# Altium schematic symbol library Connector.SchLib: 380 symbols (part 1 of 2)
Pins are listed as number, name and electrical type; pins without a type are passive.

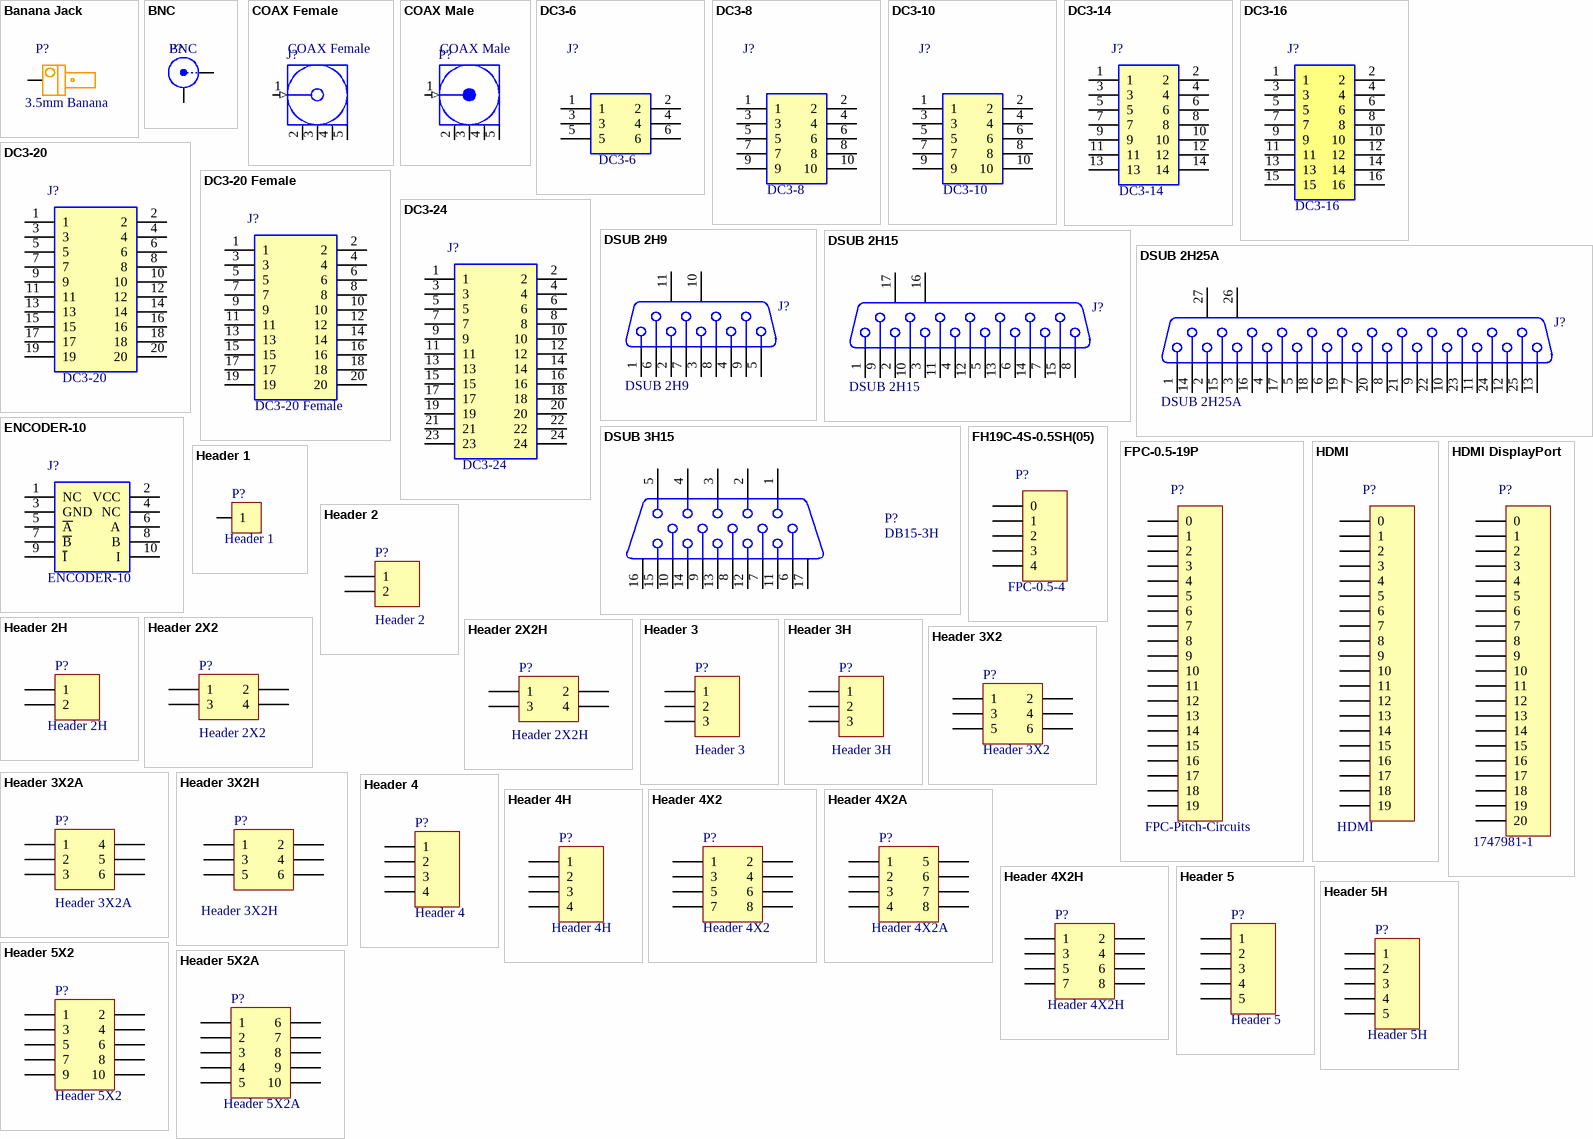
[diagram p0: symbols Banana Jack to Header 5X2A]

## Banana Jack
designator P?, comment Sch Name: 3.5mm Banana  (hidden comment: Device Name)
Banana Jack; Manufacture: Device Name
footprint Banana Jack female 3.5mm
pins: 1

## BNC
designator P?, comment Sch Name: BNC  (hidden comment: Device Name)
BNC Elbow Connector; Manufacture: Device Name
footprint BNC
pins: 1 X, 2 Y

## COAX Female
designator J?, comment Device Name  (value not drawn)
COAX Female; Manufacture: Device Name; Sch Name: COAX Female
pins: 1 Signal (in) "Signal Pin", 2 GND (power), 3 GND (power), 4 GND (power), 5 GND (power)

## COAX Male
designator P?, comment Sch Name: COAX Male  (hidden comment: Device Name)
RF Coaxial PCB Connector, MMCX; COAX Male; Manufacture: Device Name
pins: 1 Signal (in) "Signal Pin", 2 GND (power), 3 GND (power), 4 GND (power), 5 GND (power)

## DC3-6
designator J?, comment Sch Name: DC3-6  (hidden comment: Device Name)
6P简易牛角座; Manufacture: Device Name
footprint DC3-6 (6脚简易牛角座)
footprint DC3-6 Horizontal (弯头6脚简易牛角座)
pins: 1, 2, 3, 4, 5, 6

## DC3-8
designator J?, comment Sch Name: DC3-8  (hidden comment: Device Name)
8P简易牛角座; Manufacture: Device Name
footprint DC3-8 (8脚简易牛角座)
pins: 1, 2, 3, 4, 5, 6, 7, 8, 9, 10

## DC3-10
designator J?, comment Sch Name: DC3-10  (hidden comment: Device Name)
10P简易牛角座; Manufacture: Device Name
footprint DC3-10 (10脚简易牛角座)
footprint DC3-10 Horizontal (弯头10脚简易牛角座)
pins: 1, 2, 3, 4, 5, 6, 7, 8, 9, 10

## DC3-14
designator J?, comment Sch Name: DC3-14  (hidden comment: Device Name)
14P简易牛角座; Manufacture: Device Name
footprint DC3-14 Horizontal (弯头14脚简易牛角座)
footprint DC3-14 (14脚简易牛角座)
pins: 1, 2, 3, 4, 5, 6, 7, 8, 9, 10, 11, 12, 13, 14

## DC3-16
designator J?, comment Sch Name: DC3-16  (hidden comment: Device Name)
16P简易牛角座; Manufacture: Device Name
footprint DC3-16 (16脚简易牛角座)
footprint DC3-16 Horizontal (弯头16脚简易牛角座)
pins: 1, 2, 3, 4, 5, 6, 7, 8, 9, 10, 11, 12, 13, 14, 15, 16

## DC3-20
designator J?, comment Sch Name: DC3-20  (hidden comment: Device Name)
20P简易牛角座; Manufacture: Device Name
footprint DC3-20 (20脚简易牛角座)
footprint DC3-20 Horizontal
pins: 1, 2, 3, 4, 5, 6, 7, 8, 9, 10, 11, 12, 13, 14, 15, 16, 17, 18, 19, 20

## DC3-20 Female
designator J?, comment Sch Name: DC3-20 Female  (hidden comment: Device Name)
20P定向排母; Manufacture: Device Name
footprint DC3-20 Horizontal Female
pins: 1, 2, 3, 4, 5, 6, 7, 8, 9, 10, 11, 12, 13, 14, 15, 16, 17, 18, 19, 20

## DC3-24
designator J?, comment Sch Name: DC3-24  (hidden comment: Device Name)
24P简易牛角座; Manufacture: Device Name
footprint DC3-24 (24脚简易牛角座)
pins: 1, 2, 3, 4, 5, 6, 7, 8, 9, 10, 11, 12, 13, 14, 15, 16, 17, 18, 19, 20, 21, 22, 23, 24

## DSUB 2H9
designator J?, comment Device Name  (value not drawn)
DSUB 2H9; Manufacture: Device Name; Sch Name: DSUB 2H9
signal-integrity model Connector
pins: 1, 2, 3, 4, 5, 6, 7, 8, 9, 10 MH1, 11 MH2

## DSUB 2H15
designator J?, comment Device Name  (value not drawn)
DSUB 2H15; Manufacture: Device Name; Sch Name: DSUB 2H15
signal-integrity model Connector
pins: 1, 2, 3, 4, 5, 6, 7, 8, 9, 10, 11, 12, 13, 14, 15, 16 MH1, 17 MH2

## DSUB 2H25A
designator J?, comment Device Name  (value not drawn)
DSUB 2H25A; Manufacture: Device Name; Sch Name: DSUB 2H25A
signal-integrity model Connector
pins: 1, 2, 3, 4, 5, 6, 7, 8, 9, 10, 11, 12, 13, 14, 15, 16, 17, 18, 19, 20, 21, 22, 23, 24, 25, 26 MH1, 27 MH2

## DSUB 3H15
designator P?, comment DB15-3H
DSUB 3H15; Manufacture: Device Name; Sch Name: DSUB 3H15
footprint DSUB 3H15 Female VGA
pins: 1, 2, 3, 4, 5, 6, 7, 8, 9, 10, 11, 12, 13, 14, 15, 16 MH1, 17 MH2

## ENCODER-10
designator J?, comment Sch Name: ENCODER-10  (hidden comment: Device Name)
10脚安华高编码器接头; Manufacture: Device Name
footprint DC3-10 (10脚简易牛角座)
footprint DC3-10 Horizontal (弯头10脚简易牛角座)
pins: 1 NC, 2 VCC, 3 GND, 4 NC, 5 ~{A}, 6 A, 7 ~{B}, 8 B, 9 ~{I} (power), 10 I (power)

## FH19C-4S-0.5SH(05)
designator P?  Sch Name: FPC-0.5-4  (hidden comment: FH19C-4S-0.5SH(05))
Manufacture: FH19C-4S-0.5SH(05)
footprint FH19C-4S-0.5SH(05)
pins: 0, 1, 2, 3, 4

## FPC-0.5-19P
designator P?, comment Sch Name: FPC-Pitch-Circuits  (hidden comment: Device Name)
FPC-0.5-19P; Manufacture: Device Name
footprint FPC 0.5 19P
pins: 0, 1, 2, 3, 4, 5, 6, 7, 8, 9, 10, 11, 12, 13, 14, 15, 16, 17, 18, 19

## HDMI
designator P?, comment Device Name  (value not drawn)
HDMI; Manufacture: Device Name; Sch Name: HDMI
footprint HDMI
pins: 0, 1, 2, 3, 4, 5, 6, 7, 8, 9, 10, 11, 12, 13, 14, 15, 16, 17, 18, 19

## HDMI DisplayPort
designator P?, comment Sch Name: 1747981-1  (hidden comment: Device Name)
HDMI 1747981-1; Manufacture: Device Name
footprint HDMI DisplayPort
pins: 0, 1, 2, 3, 4, 5, 6, 7, 8, 9, 10, 11, 12, 13, 14, 15, 16, 17, 18, 19, 20

## Header 1
designator P?, comment Sch Name: Header 1  (hidden comment: Device Name)
Header, 1-Pin; Manufacture: Device Name
signal-integrity model Connector
footprint HDR1X1F (单排1针排针)
footprint HDR-2.0-1X1
pins: 1

## Header 2
designator P?, comment Sch Name: Header 2  (hidden comment: Device Name)
Header, 2-Pin; Manufacture: Device Name
footprint HDR1X2 (Connector; Header; 2 Position)
signal-integrity model Connector
footprint HDR-2.0-1X2
footprint HDR-2.0-2X1-SMT
footprint HDR-1.27-1X2 (Connector; Header; 2 Position)
pins: 1, 2

## Header 2H
designator P?, comment Sch Name: Header 2H  (hidden comment: Device Name)
Header, 2-Pin, Right Angle; Manufacture: Device Name
footprint HDR1X2H (Connector; Header; 2 Position; Right Angle)
signal-integrity model Connector
pins: 1, 2

## Header 2X2
designator P?, comment Sch Name: Header 2X2  (hidden comment: Device Name)
Header, 2-Pin, Dual row; Manufacture: Device Name
footprint HDR2X2 (Connector; Header; 2x2 Position)
signal-integrity model Connector
footprint HDR-2.0-2X2-SMT
footprint HDR-1.27-2X2 (Connector; Header; 2x2 Position)
pins: 1, 2, 3, 4

## Header 2X2H
designator P?, comment Sch Name: Header 2X2H  (hidden comment: Device Name)
Header, 2-Pin, Dual row, Right Angle; Manufacture: Device Name
footprint HDR2X2H (Connector; Header; 2x2 Position; Right Angle)
signal-integrity model Connector
pins: 1, 2, 3, 4

## Header 3
designator P?, comment Sch Name: Header 3  (hidden comment: Device Name)
Header, 3-Pin; Manufacture: Device Name
footprint HDR1X3 (Connector; Header; 3 Position)
signal-integrity model Connector
footprint HDR-1.27-1X3 (Connector; Header; 3 Position)
footprint HDR-2.0-1X3
pins: 1, 2, 3

## Header 3H
designator P?, comment Sch Name: Header 3H  (hidden comment: Device Name)
Header, 3-Pin, Right Angle; Manufacture: Device Name
footprint HDR1X3H (Connector; Header; 3 Position; Right Angle)
signal-integrity model Connector
pins: 1, 2, 3

## Header 3X2
designator P?, comment Sch Name: Header 3X2  (hidden comment: Device Name)
Header, 3-Pin, Dual row; Manufacture: Device Name
footprint HDR2X3 (Connector; Header; 3x2 Position)
signal-integrity model Connector
footprint HDR-2.0-2X3-SMT
footprint HDR-1.27-2X3 (Connector; Header; 3x2 Position)
pins: 1, 2, 3, 4, 5, 6

## Header 3X2A
designator P?, comment Sch Name: Header 3X2A  (hidden comment: Device Name)
Header, 3-Pin, Dual row; Manufacture: Device Name
footprint HDR2X3_CEN (Connector; Header; 3x2 Position)
signal-integrity model Connector
pins: 1, 2, 3, 4, 5, 6

## Header 3X2H
designator P?, comment Sch Name: Header 3X2H  (hidden comment: Device Name)
Header, 3-Pin, Dual row, Right Angle; Manufacture: Device Name
footprint HDR2X3H (Connector; Header; 3x2 Position; Right Angle)
signal-integrity model Connector
pins: 1, 2, 3, 4, 5, 6

## Header 4
designator P?, comment Sch Name: Header 4  (hidden comment: Device Name)
Header, 4-Pin; Manufacture: Device Name
footprint HDR1X4 (Connector; Header; 4 Position)
signal-integrity model Connector
footprint HDR-2.0-1X4
footprint HDR-1.27-1X4 (Connector; Header; 4 Position)
pins: 1, 2, 3, 4

## Header 4H
designator P?, comment Sch Name: Header 4H  (hidden comment: Device Name)
Header, 4-Pin, Right Angle; Manufacture: Device Name
footprint HDR1X4H (Connector; Header; 4 Position; Right Angle)
signal-integrity model Connector
pins: 1, 2, 3, 4

## Header 4X2
designator P?, comment Sch Name: Header 4X2  (hidden comment: Device Name)
Header, 4-Pin, Dual row; Manufacture: Device Name
footprint HDR2X4 (Connector; Header; 4x2 Position)
signal-integrity model Connector
footprint HDR-2.0-2X4-SMT
footprint HDR-1.27-2X4 (Connector; Header; 4x2 Position)
pins: 1, 2, 3, 4, 5, 6, 7, 8

## Header 4X2A
designator P?, comment Sch Name: Header 4X2A  (hidden comment: Device Name)
Header, 4-Pin, Dual row; Manufacture: Device Name
footprint HDR2X4_CEN (Connector; Header; 4x2 Position)
signal-integrity model Connector
pins: 1, 2, 3, 4, 5, 6, 7, 8

## Header 4X2H
designator P?, comment Sch Name: Header 4X2H  (hidden comment: Device Name)
Header, 4-Pin, Dual row, Right Angle; Manufacture: Device Name
footprint HDR2X4H (Connector; Header; 4x2 Position; Right Angle)
signal-integrity model Connector
pins: 1, 2, 3, 4, 5, 6, 7, 8

## Header 5
designator P?, comment Sch Name: Header 5  (hidden comment: Device Name)
Header, 5-Pin; Manufacture: Device Name
footprint HDR1X5 (Connector; Header; 5 Position)
signal-integrity model Connector
footprint HDR-2.0-1X5
footprint HDR-1.27-1X5 (Connector; Header; 5 Position)
pins: 1, 2, 3, 4, 5

## Header 5H
designator P?, comment Sch Name: Header 5H  (hidden comment: Device Name)
Header, 5-Pin, Right Angle; Manufacture: Device Name
footprint HDR1X5H (Connector; Header; 5 Position; Right Angle)
signal-integrity model Connector
footprint HDR1X5_PAD (Connector; Header; 5 Position; Right Angle)
pins: 1, 2, 3, 4, 5

## Header 5X2
designator P?, comment Sch Name: Header 5X2  (hidden comment: Device Name)
Header, 5-Pin, Dual row; Manufacture: Device Name
footprint HDR2X5 (Connector; Header; 5x2 Position)
signal-integrity model Connector
footprint HDR-2.0-2X5-SMT
footprint HDR-1.27-2X5 (Connector; Header; 5x2 Position)
footprint HDR-2.0-2X5
pins: 1, 2, 3, 4, 5, 6, 7, 8, 9, 10

## Header 5X2A
designator P?, comment Sch Name: Header 5X2A  (hidden comment: Device Name)
Header, 5-Pin, Dual row; Manufacture: Device Name
footprint HDR2X5_CEN (Connector; Header; 5x2 Position)
signal-integrity model Connector
pins: 1, 2, 3, 4, 5, 6, 7, 8, 9, 10

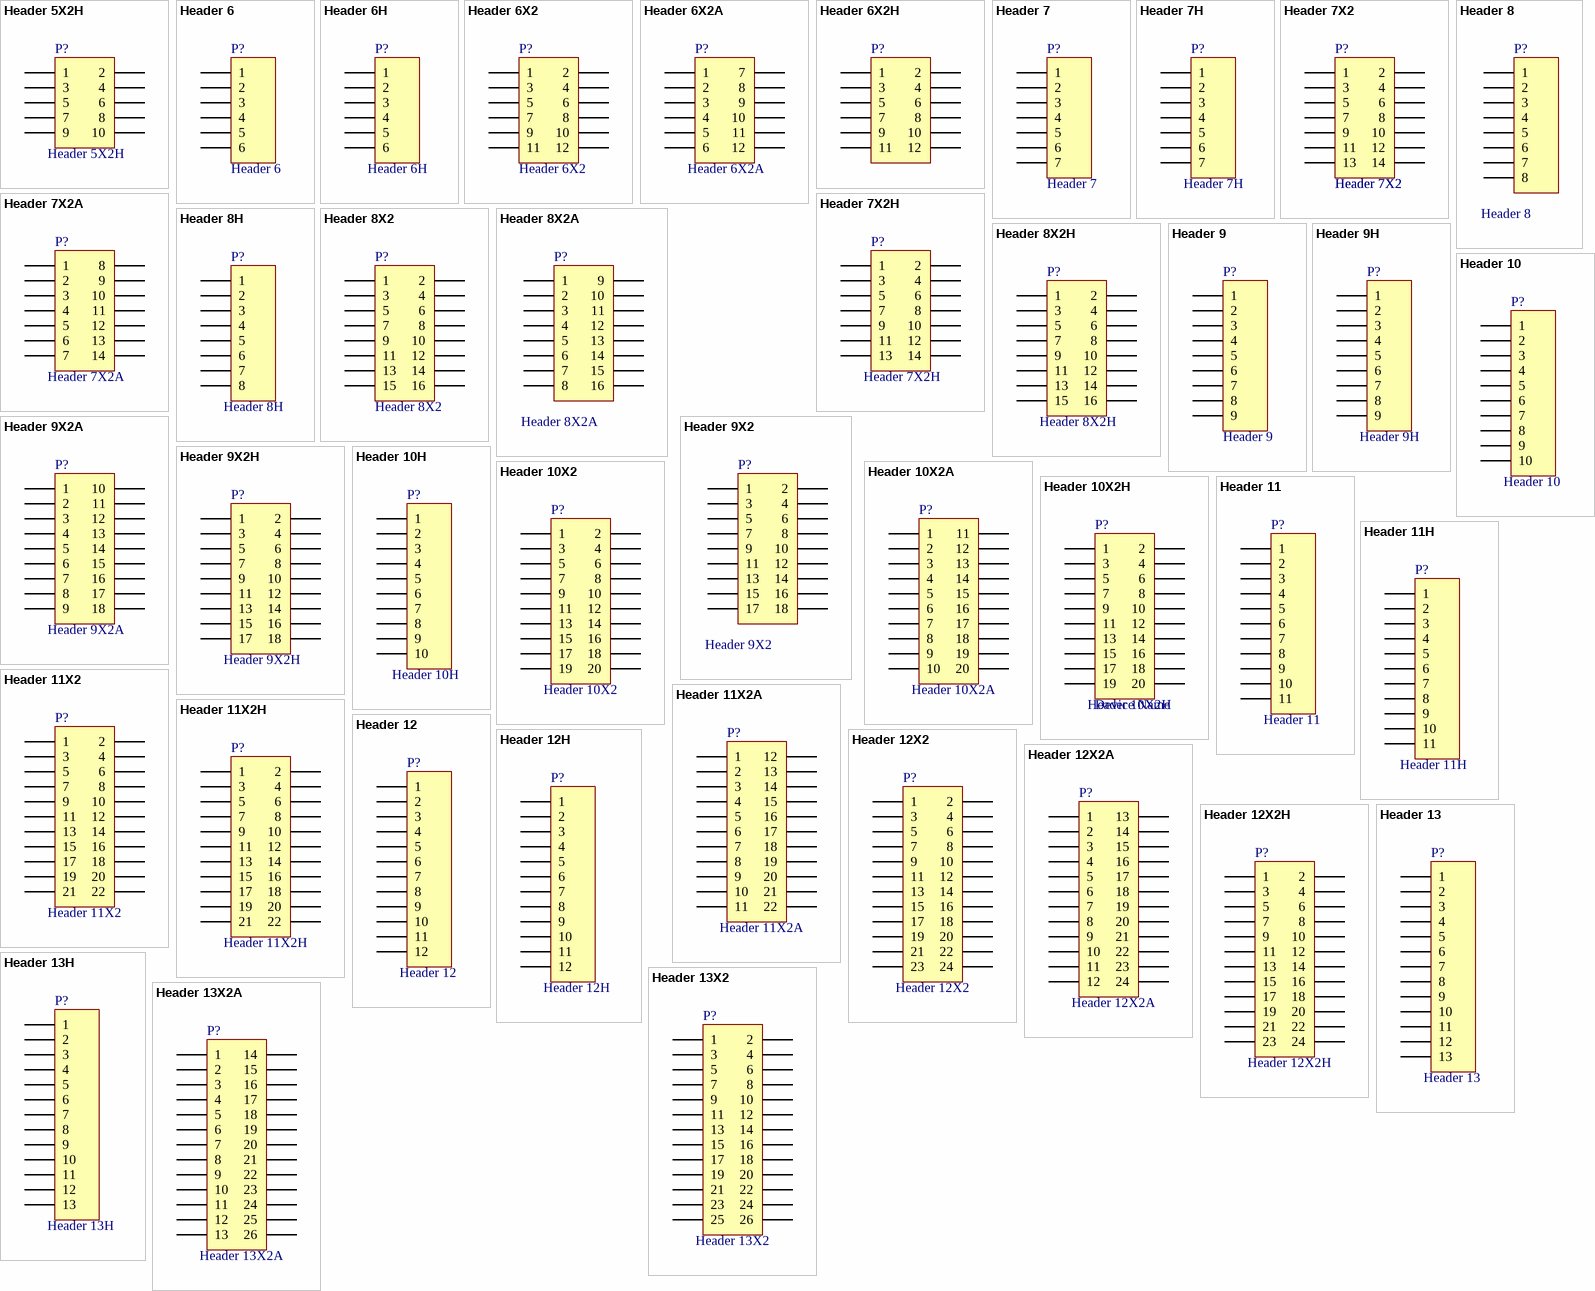
[diagram p1: symbols Header 5X2H to Header 13X2A]

## Header 5X2H
designator P?, comment Sch Name: Header 5X2H  (hidden comment: Device Name)
Header, 5-Pin, Dual row, Right Angle; Manufacture: Device Name
footprint HDR2X5H (Connector; Header; 5x2 Position; Right Angle)
signal-integrity model Connector
pins: 1, 2, 3, 4, 5, 6, 7, 8, 9, 10

## Header 6
designator P?, comment Sch Name: Header 6  (hidden comment: Device Name)
Header, 6-Pin; Manufacture: Device Name
footprint HDR1X6 (Connector; Header; 6 Position)
signal-integrity model Connector
footprint HDR-2.0-1X6
footprint HDR-1.27-1X6 (Connector; Header; 6 Position)
pins: 1, 2, 3, 4, 5, 6

## Header 6H
designator P?, comment Sch Name: Header 6H  (hidden comment: Device Name)
Header, 6-Pin, Right Angle; Manufacture: Device Name
footprint HDR1X6H (Connector; Header; 6 Position; Right Angle)
signal-integrity model Connector
pins: 1, 2, 3, 4, 5, 6

## Header 6X2
designator P?, comment Sch Name: Header 6X2  (hidden comment: Device Name)
Header, 6-Pin, Dual row; Manufacture: Device Name
footprint HDR2X6 (Connector; Header; 6x2 Position)
signal-integrity model Connector
footprint HDR-2.0-2X6-SMT
footprint HDR-1.27-2X6 (Connector; Header; 6x2 Position)
pins: 1, 2, 3, 4, 5, 6, 7, 8, 9, 10, 11, 12

## Header 6X2A
designator P?, comment Sch Name: Header 6X2A  (hidden comment: Device Name)
Header, 6-Pin, Dual row; Manufacture: Device Name
footprint HDR2X6_CEN (Connector; Header; 6x2 Position)
signal-integrity model Connector
pins: 1, 2, 3, 4, 5, 6, 7, 8, 9, 10, 11, 12

## Header 6X2H
designator P?, comment Device Name  (value not drawn)
Header, 6-Pin, Dual row, Right Angle; Sch Name: Header 6X2H; Manufacture: Device Name
footprint HDR2X6H (Connector; Header; 6x2 Position; Right Angle)
signal-integrity model Connector
pins: 1, 2, 3, 4, 5, 6, 7, 8, 9, 10, 11, 12

## Header 7
designator P?, comment Sch Name: Header 7  (hidden comment: Device Name)
Header, 7-Pin; Manufacture: Device Name
footprint HDR1X7 (Connector; Header; 7 Position)
signal-integrity model Connector
footprint HDR-2.0-1X7
footprint HDR-1.27-1X7 (Connector; Header; 7 Position)
pins: 1, 2, 3, 4, 5, 6, 7

## Header 7H
designator P?, comment Sch Name: Header 7H  (hidden comment: Device Name)
Header, 7-Pin, Right Angle; Manufacture: Device Name
footprint HDR1X7H (Connector; Header; 7 Position; Right Angle)
signal-integrity model Connector
pins: 1, 2, 3, 4, 5, 6, 7

## Header 7X2
designator P?
Header, 7-Pin, Dual row; Manufacture: Device Name; Sch Name: Header 7X2
footprint HDR2X7 (Connector; Header; 7x2 Position)
signal-integrity model Connector
footprint HDR-1.27-2X7 (Connector; Header; 7x2 Position)
pins: 1, 2, 3, 4, 5, 6, 7, 8, 9, 10, 11, 12, 13, 14

## Header 7X2A
designator P?, comment Sch Name: Header 7X2A  (hidden comment: Device Name)
Header, 7-Pin, Dual row; Manufacture: Device Name
footprint HDR2X7_CEN (Connector; Header; 7x2 Position)
signal-integrity model Connector
pins: 1, 2, 3, 4, 5, 6, 7, 8, 9, 10, 11, 12, 13, 14

## Header 7X2H
designator P?, comment Sch Name: Header 7X2H  (hidden comment: Device Name)
Header, 7-Pin, Dual row, Right Angle; Manufacture: Device Name
footprint HDR2X7H (Connector; Header; 7x2 Position; Right Angle)
signal-integrity model Connector
pins: 1, 2, 3, 4, 5, 6, 7, 8, 9, 10, 11, 12, 13, 14

## Header 8
designator P?, comment Sch Name: Header 8  (hidden comment: Device Name)
Header, 8-Pin; Manufacture: Device Name
footprint HDR1X8 (Connector; Header; 8 Position)
signal-integrity model Connector
footprint HDR-1.27-1X8 (Connector; Header; 8 Position)
footprint HDR-2.0-1X8
pins: 1, 2, 3, 4, 5, 6, 7, 8

## Header 8H
designator P?, comment Sch Name: Header 8H  (hidden comment: Device Name)
Header, 8-Pin, Right Angle; Manufacture: Device Name
footprint HDR1X8H (Connector; Header; 8 Position; Right Angle)
signal-integrity model Connector
pins: 1, 2, 3, 4, 5, 6, 7, 8

## Header 8X2
designator P?, comment Sch Name: Header 8X2  (hidden comment: Device Name)
Header, 8-Pin, Dual row; Manufacture: Device Name
footprint HDR2X8 (Connector; Header; 8x2 Position)
signal-integrity model Connector
footprint HDR-1.27-2X8 (Connector; Header; 8x2 Position)
pins: 1, 2, 3, 4, 5, 6, 7, 8, 9, 10, 11, 12, 13, 14, 15, 16

## Header 8X2A
designator P?, comment Sch Name: Header 8X2A  (hidden comment: Device Name)
Header, 8-Pin, Dual row; Manufacture: Device Name
footprint HDR2X8_CEN (Connector; Header; 8x2 Position)
signal-integrity model Connector
pins: 1, 2, 3, 4, 5, 6, 7, 8, 9, 10, 11, 12, 13, 14, 15, 16

## Header 8X2H
designator P?, comment Sch Name: Header 8X2H  (hidden comment: Device Name)
Header, 8-Pin, Dual row, Right Angle; Manufacture: Device Name
footprint HDR2X8H (Connector; Header; 8x2 Position; Right Angle)
signal-integrity model Connector
pins: 1, 2, 3, 4, 5, 6, 7, 8, 9, 10, 11, 12, 13, 14, 15, 16

## Header 9
designator P?, comment Sch Name: Header 9  (hidden comment: Device Name)
Header, 9-Pin; Manufacture: Device Name
footprint HDR1X9 (Connector; Header; 9 Position)
signal-integrity model Connector
footprint HDR-1.27-1X9 (Connector; Header; 9 Position)
footprint HDR-2.0-1X9
pins: 1, 2, 3, 4, 5, 6, 7, 8, 9

## Header 9H
designator P?, comment Sch Name: Header 9H  (hidden comment: Device Name)
Header, 9-Pin, Right Angle; Manufacture: Device Name
footprint HDR1X9H (Connector; Header; 9 Position; Right Angle)
signal-integrity model Connector
pins: 1, 2, 3, 4, 5, 6, 7, 8, 9

## Header 9X2
designator P?, comment Sch Name: Header 9X2  (hidden comment: Device Name)
Header, 9-Pin, Dual row; Manufacture: Device Name
footprint HDR2X9 (Connector; Header; 9x2 Position)
signal-integrity model Connector
footprint HDR-1.27-2X9 (Connector; Header; 9x2 Position)
pins: 1, 2, 3, 4, 5, 6, 7, 8, 9, 10, 11, 12, 13, 14, 15, 16, 17, 18

## Header 9X2A
designator P?, comment Sch Name: Header 9X2A  (hidden comment: Device Name)
Header, 9-Pin, Dual row; Manufacture: Device Name
footprint HDR2X9_CEN (Connector; Header; 9x2 Position)
signal-integrity model Connector
pins: 1, 2, 3, 4, 5, 6, 7, 8, 9, 10, 11, 12, 13, 14, 15, 16, 17, 18

## Header 9X2H
designator P?, comment Sch Name: Header 9X2H  (hidden comment: Device Name)
Header, 9-Pin, Dual row, Right Angle; Manufacture: Device Name
footprint HDR2X9H (Connector; Header; 9x2 Position; Right Angle)
signal-integrity model Connector
pins: 1, 2, 3, 4, 5, 6, 7, 8, 9, 10, 11, 12, 13, 14, 15, 16, 17, 18

## Header 10
designator P?, comment Sch Name: Header 10  (hidden comment: Device Name)
Header, 10-Pin; Manufacture: Device Name
footprint HDR1X10 (Connector; Header; 10 Position)
signal-integrity model Connector
footprint HDR1X10_2.54_SMT_L1 (Connector; Header; 12x2 Position)
footprint HDR1X10_2.54_SMT_R1 (Connector; Header; 12x2 Position)
footprint HDR-1.27-1X10 (Connector; Header; 10 Position)
footprint HDR-2.0-1X10
pins: 1, 2, 3, 4, 5, 6, 7, 8, 9, 10

## Header 10H
designator P?, comment Sch Name: Header 10H  (hidden comment: Device Name)
Header, 10-Pin, Right Angle; Manufacture: Device Name
footprint HDR1X10H (Connector; Header; 10 Position; Right Angle)
signal-integrity model Connector
pins: 1, 2, 3, 4, 5, 6, 7, 8, 9, 10

## Header 10X2
designator P?, comment Sch Name: Header 10X2  (hidden comment: Device Name)
Header, 10-Pin, Dual row; Manufacture: Device Name
footprint HDR2X10 (Connector; Header; 10x2 Position)
signal-integrity model Connector
footprint HDR2X10_2.54_SMT (Connector; Header; 12x2 Position)
footprint HDR-1.27-2X10 (Connector; Header; 10x2 Position)
pins: 1, 2, 3, 4, 5, 6, 7, 8, 9, 10, 11, 12, 13, 14, 15, 16, 17, 18, 19, 20

## Header 10X2A
designator P?, comment Sch Name: Header 10X2A  (hidden comment: Device Name)
Header, 10-Pin, Dual row; Manufacture: Device Name
footprint HDR2X10_CEN (Connector; Header; 10x2 Position)
signal-integrity model Connector
pins: 1, 2, 3, 4, 5, 6, 7, 8, 9, 10, 11, 12, 13, 14, 15, 16, 17, 18, 19, 20

## Header 10X2H
designator P?, comment Device Name  Sch Name: Header 10X2H
Header, 10-Pin, Dual row, Right Angle; Manufacture: Device Name
footprint HDR2X10H (Connector; Header; 10x2 Position; Right Angle)
signal-integrity model Connector
pins: 1, 2, 3, 4, 5, 6, 7, 8, 9, 10, 11, 12, 13, 14, 15, 16, 17, 18, 19, 20

## Header 11
designator P?, comment Sch Name: Header 11  (hidden comment: Device Name)
Header, 11-Pin; Manufacture: Device Name
footprint HDR1X11 (Connector; Header; 11 Position)
signal-integrity model Connector
footprint HDR-1.27-1X11 (Connector; Header; 11 Position)
footprint HDR-2.0-1X11
pins: 1, 2, 3, 4, 5, 6, 7, 8, 9, 10, 11

## Header 11H
designator P?, comment Sch Name: Header 11H  (hidden comment: Device Name)
Header, 11-Pin, Right Angle; Manufacture: Device Name
footprint HDR1X11H (Connector; Header; 11 Position; Right Angle)
signal-integrity model Connector
pins: 1, 2, 3, 4, 5, 6, 7, 8, 9, 10, 11

## Header 11X2
designator P?, comment Sch Name: Header 11X2  (hidden comment: Device Name)
Header, 11-Pin, Dual row; Manufacture: Device Name
footprint HDR2X11 (Connector; Header; 11x2 Position)
signal-integrity model Connector
footprint HDR-1.27-2X11 (Connector; Header; 11x2 Position)
pins: 1, 2, 3, 4, 5, 6, 7, 8, 9, 10, 11, 12, 13, 14, 15, 16, 17, 18, 19, 20, 21, 22

## Header 11X2A
designator P?, comment Sch Name: Header 11X2A  (hidden comment: Device Name)
Header, 11-Pin, Dual row; Manufacture: Device Name
footprint HDR2X11_CEN (Connector; Header; 11x2 Position)
signal-integrity model Connector
pins: 1, 2, 3, 4, 5, 6, 7, 8, 9, 10, 11, 12, 13, 14, 15, 16, 17, 18, 19, 20, 21, 22

## Header 11X2H
designator P?, comment Sch Name: Header 11X2H  (hidden comment: Device Name)
Header, 11-Pin, Dual row, Right Angle; Manufacture: Device Name
footprint HDR2X11H (Connector; Header; 11x2 Position; Right Angle)
signal-integrity model Connector
pins: 1, 2, 3, 4, 5, 6, 7, 8, 9, 10, 11, 12, 13, 14, 15, 16, 17, 18, 19, 20, 21, 22

## Header 12
designator P?, comment Sch Name: Header 12  (hidden comment: Device Name)
Header, 12-Pin; Manufacture: Device Name
footprint HDR1X12 (Connector; Header; 12 Position)
signal-integrity model Connector
footprint HDR1X12_2.54_SMT_R1 (Connector; Header; 12x2 Position)
footprint HDR-1.27-1X12 (Connector; Header; 12 Position)
footprint HDR-2.0-1X12
pins: 1, 2, 3, 4, 5, 6, 7, 8, 9, 10, 11, 12

## Header 12H
designator P?, comment Sch Name: Header 12H  (hidden comment: Device Name)
Header, 12-Pin, Right Angle; Manufacture: Device Name
footprint HDR1X12H (Connector; Header; 12 Position; Right Angle)
signal-integrity model Connector
pins: 1, 2, 3, 4, 5, 6, 7, 8, 9, 10, 11, 12

## Header 12X2
designator P?, comment Sch Name: Header 12X2  (hidden comment: Device Name)
Header, 12-Pin, Dual row; Manufacture: Device Name
footprint HDR2X12 (Connector; Header; 12x2 Position)
signal-integrity model Connector
footprint HDR2X12_2.54_SMT (Connector; Header; 12x2 Position)
footprint HDR-1.27-2X12 (Connector; Header; 12x2 Position)
pins: 1, 2, 3, 4, 5, 6, 7, 8, 9, 10, 11, 12, 13, 14, 15, 16, 17, 18, 19, 20, 21, 22, 23, 24

## Header 12X2A
designator P?, comment Sch Name: Header 12X2A  (hidden comment: Device Name)
Header, 12-Pin, Dual row; Manufacture: Device Name
footprint HDR2X12_CEN (Connector; Header; 12x2 Position)
signal-integrity model Connector
pins: 1, 2, 3, 4, 5, 6, 7, 8, 9, 10, 11, 12, 13, 14, 15, 16, 17, 18, 19, 20, 21, 22, 23, 24

## Header 12X2H
designator P?, comment Sch Name: Header 12X2H  (hidden comment: Device Name)
Header, 12-Pin, Dual row, Right Angle; Manufacture: Device Name
footprint HDR2X12H (Connector; Header; 12x2 Position; Right Angle)
signal-integrity model Connector
pins: 1, 2, 3, 4, 5, 6, 7, 8, 9, 10, 11, 12, 13, 14, 15, 16, 17, 18, 19, 20, 21, 22, 23, 24

## Header 13
designator P?, comment Sch Name: Header 13  (hidden comment: Device Name)
Header, 13-Pin; Manufacture: Device Name
footprint HDR1X13 (Connector; Header; 13 Position)
signal-integrity model Connector
footprint HDR-1.27-1X14 (Connector; Header; 14 Position)
footprint HDR-2.0-1X13
pins: 1, 2, 3, 4, 5, 6, 7, 8, 9, 10, 11, 12, 13

## Header 13H
designator P?, comment Sch Name: Header 13H  (hidden comment: Device Name)
Header, 13-Pin, Right Angle; Manufacture: Device Name
footprint HDR1X13H (Connector; Header; 13 Position; Right Angle)
signal-integrity model Connector
pins: 1, 2, 3, 4, 5, 6, 7, 8, 9, 10, 11, 12, 13

## Header 13X2
designator P?, comment Sch Name: Header 13X2  (hidden comment: Device Name)
Header, 13-Pin, Dual row; Manufacture: Device Name
footprint HDR2X13 (Connector; Header; 13x2 Position)
signal-integrity model Connector
footprint HDR-1.27-2X13 (Connector; Header; 13x2 Position)
pins: 1, 2, 3, 4, 5, 6, 7, 8, 9, 10, 11, 12, 13, 14, 15, 16, 17, 18, 19, 20, 21, 22, 23, 24, 25, 26

## Header 13X2A
designator P?, comment Sch Name: Header 13X2A  (hidden comment: Device Name)
Header, 13-Pin, Dual row; Manufacture: Device Name
footprint HDR2X13_CEN (Connector; Header; 13x2 Position)
signal-integrity model Connector
pins: 1, 2, 3, 4, 5, 6, 7, 8, 9, 10, 11, 12, 13, 14, 15, 16, 17, 18, 19, 20, 21, 22, 23, 24, 25, 26

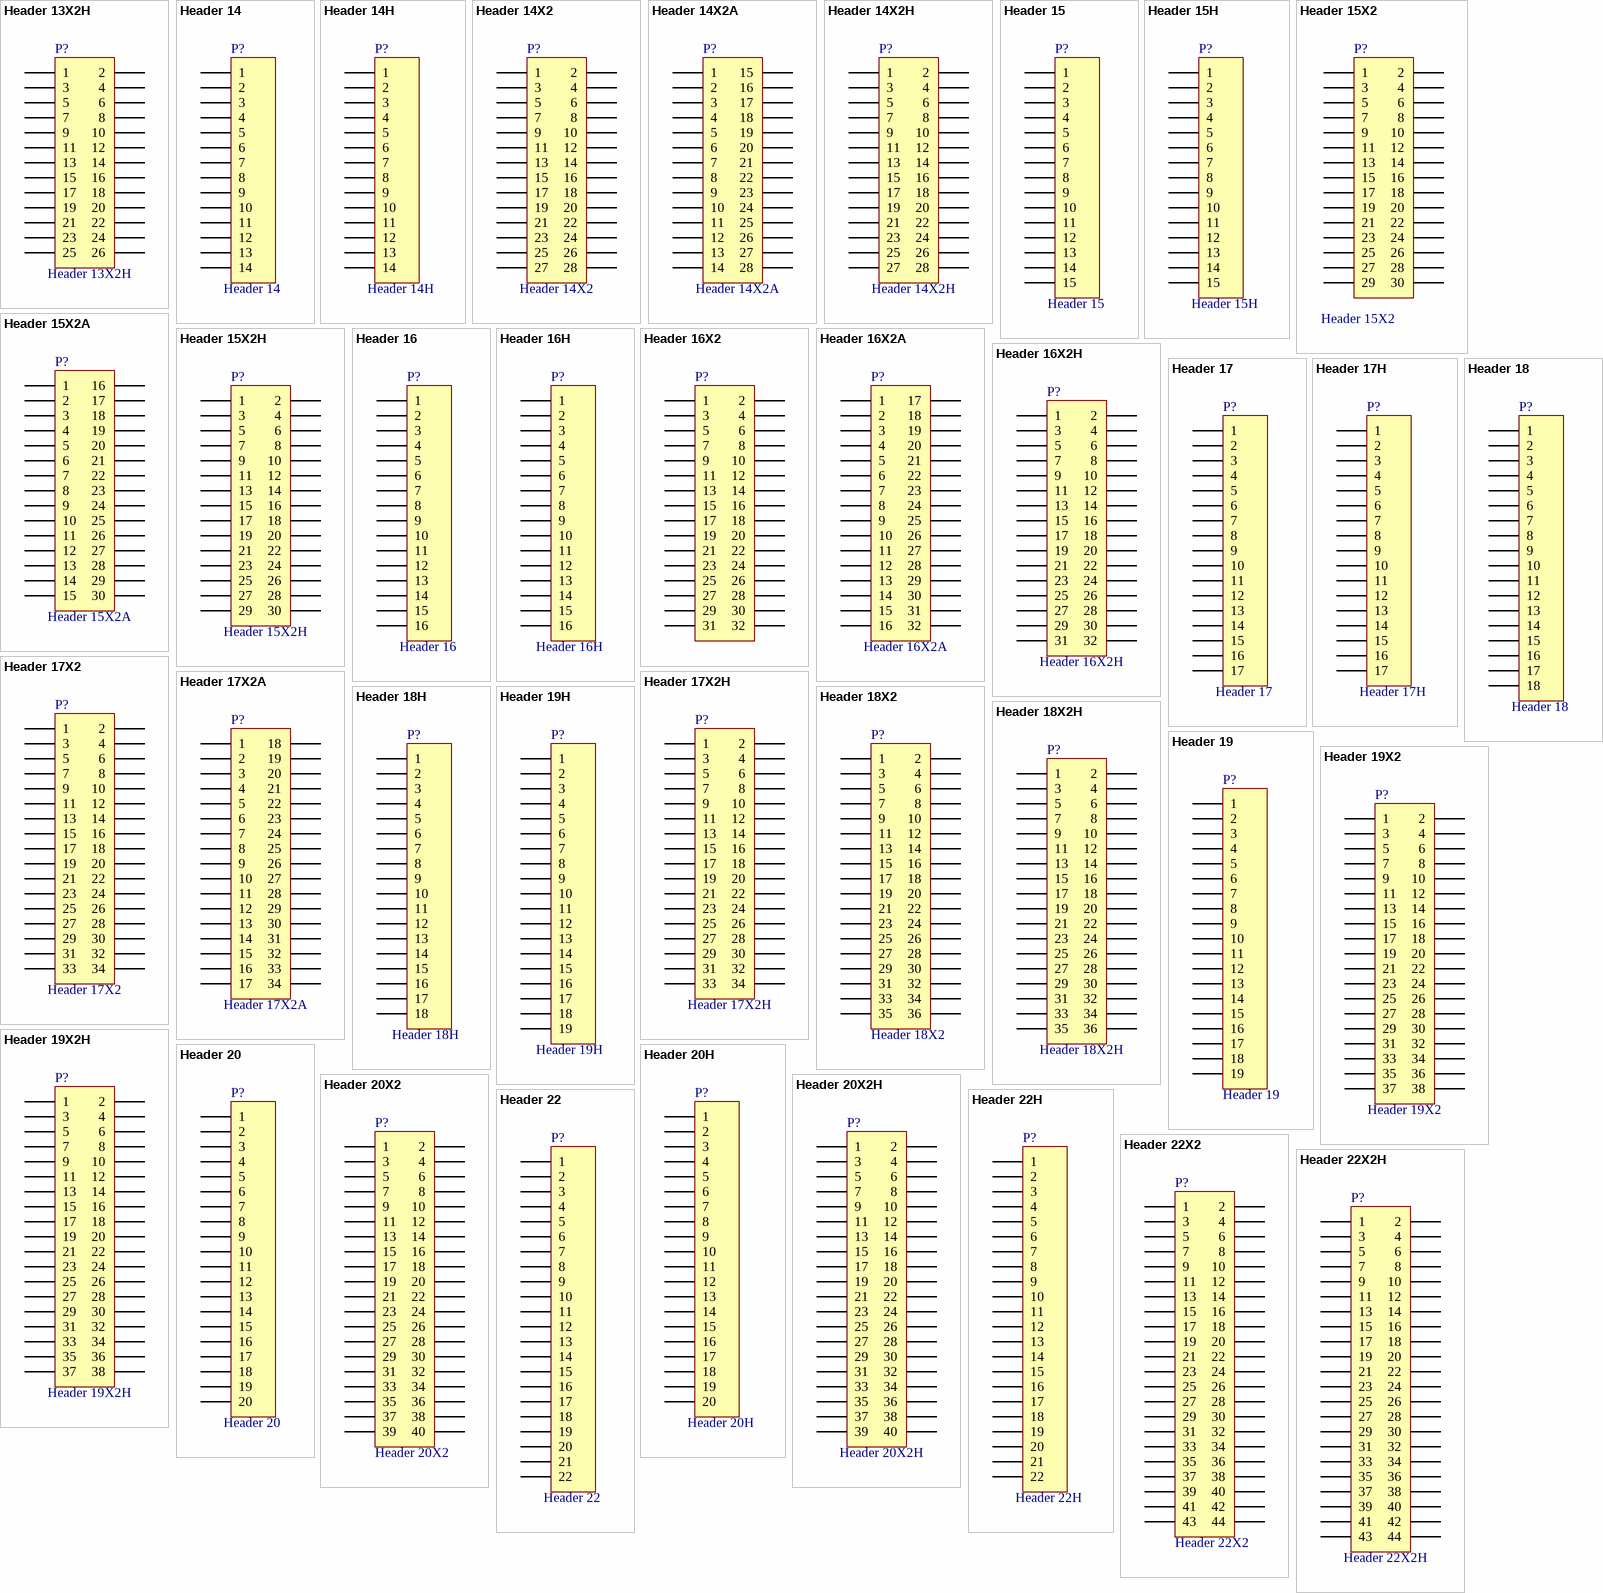
[diagram p2: symbols Header 13X2H to Header 22X2H]

## Header 13X2H
designator P?, comment Sch Name: Header 13X2H  (hidden comment: Device Name)
Header, 13-Pin, Dual row, Right Angle; Manufacture: Device Name
footprint HDR2X13H (Connector; Header; 13x2 Position; Right Angle)
signal-integrity model Connector
pins: 1, 2, 3, 4, 5, 6, 7, 8, 9, 10, 11, 12, 13, 14, 15, 16, 17, 18, 19, 20, 21, 22, 23, 24, 25, 26

## Header 14
designator P?, comment Sch Name: Header 14  (hidden comment: Device Name)
Header, 14-Pin; Manufacture: Device Name
footprint HDR1X14 (Connector; Header; 14 Position)
signal-integrity model Connector
footprint HDR-1.27-1X14 (Connector; Header; 14 Position)
pins: 1, 2, 3, 4, 5, 6, 7, 8, 9, 10, 11, 12, 13, 14

## Header 14H
designator P?, comment Sch Name: Header 14H  (hidden comment: Device Name)
Header, 14-Pin, Right Angle; Manufacture: Device Name
footprint HDR1X14H (Connector; Header; 14 Position; Right Angle)
signal-integrity model Connector
pins: 1, 2, 3, 4, 5, 6, 7, 8, 9, 10, 11, 12, 13, 14

## Header 14X2
designator P?, comment Sch Name: Header 14X2  (hidden comment: Device Name)
Header, 14-Pin, Dual row; Manufacture: Device Name
footprint HDR2X14 (Connector; Header; 14x2 Position)
signal-integrity model Connector
footprint HDR-1.27-2X14 (Connector; Header; 14x2 Position)
pins: 1, 2, 3, 4, 5, 6, 7, 8, 9, 10, 11, 12, 13, 14, 15, 16, 17, 18, 19, 20, 21, 22, 23, 24, 25, 26, 27, 28

## Header 14X2A
designator P?, comment Sch Name: Header 14X2A  (hidden comment: Device Name)
Header, 14-Pin, Dual row; Manufacture: Device Name
footprint HDR2X14_CEN (Connector; Header; 14x2 Position)
signal-integrity model Connector
pins: 1, 2, 3, 4, 5, 6, 7, 8, 9, 10, 11, 12, 13, 14, 15, 16, 17, 18, 19, 20, 21, 22, 23, 24, 25, 26, 27, 28

## Header 14X2H
designator P?, comment Sch Name: Header 14X2H  (hidden comment: Device Name)
Header, 14-Pin, Dual row, Right Angle; Manufacture: Device Name
footprint HDR2X14H (Connector; Header; 14x2 Position; Right Angle)
signal-integrity model Connector
pins: 1, 2, 3, 4, 5, 6, 7, 8, 9, 10, 11, 12, 13, 14, 15, 16, 17, 18, 19, 20, 21, 22, 23, 24, 25, 26, 27, 28

## Header 15
designator P?, comment Sch Name: Header 15  (hidden comment: Device Name)
Header, 15-Pin; Manufacture: Device Name
footprint HDR1X15 (Connector; Header; 15 Position)
signal-integrity model Connector
footprint HDR-1.27-1X15 (Connector; Header; 15 Position)
pins: 1, 2, 3, 4, 5, 6, 7, 8, 9, 10, 11, 12, 13, 14, 15

## Header 15H
designator P?, comment Sch Name: Header 15H  (hidden comment: Device Name)
Header, 15-Pin, Right Angle; Manufacture: Device Name
footprint HDR1X15H (Connector; Header; 15 Position; Right Angle)
signal-integrity model Connector
pins: 1, 2, 3, 4, 5, 6, 7, 8, 9, 10, 11, 12, 13, 14, 15

## Header 15X2
designator P?, comment Sch Name: Header 15X2  (hidden comment: Device Name)
Header, 15-Pin, Dual row; Manufacture: Device Name
footprint HDR2X15 (Connector; Header; 15x2 Position)
signal-integrity model Connector
footprint HDR2X15_2.54_SMT (Connector; Header; 12x2 Position)
footprint HDR-1.27-2X15 (Connector; Header; 15x2 Position)
pins: 1, 2, 3, 4, 5, 6, 7, 8, 9, 10, 11, 12, 13, 14, 15, 16, 17, 18, 19, 20, 21, 22, 23, 24, 25, 26, 27, 28, 29, 30

## Header 15X2A
designator P?, comment Sch Name: Header 15X2A  (hidden comment: Device Name)
Header, 15-Pin, Dual row; Manufacture: Device Name
footprint HDR2X15_CEN (Connector; Header; 15x2 Position)
signal-integrity model Connector
pins: 1, 2, 3, 4, 5, 6, 7, 8, 9, 10, 11, 12, 13, 14, 15, 16, 17, 18, 19, 20, 21, 22, 23, 24, 25, 26, 27, 28, 29, 30

## Header 15X2H
designator P?, comment Sch Name: Header 15X2H  (hidden comment: Device Name)
Header, 15-Pin, Dual row, Right Angle; Manufacture: Device Name
footprint HDR2X15H (Connector; Header; 15x2 Position; Right Angle)
signal-integrity model Connector
pins: 1, 2, 3, 4, 5, 6, 7, 8, 9, 10, 11, 12, 13, 14, 15, 16, 17, 18, 19, 20, 21, 22, 23, 24, 25, 26, 27, 28, 29, 30

## Header 16
designator P?, comment Sch Name: Header 16  (hidden comment: Device Name)
Header, 16-Pin; Manufacture: Device Name
footprint HDR1X16 (Connector; Header; 16 Position)
signal-integrity model Connector
footprint HDR-1.27-1X16 (Connector; Header; 16 Position)
pins: 1, 2, 3, 4, 5, 6, 7, 8, 9, 10, 11, 12, 13, 14, 15, 16

## Header 16H
designator P?, comment Sch Name: Header 16H  (hidden comment: Device Name)
Header, 16-Pin, Right Angle; Manufacture: Device Name
footprint HDR1X16H (Connector; Header; 16 Position; Right Angle)
signal-integrity model Connector
pins: 1, 2, 3, 4, 5, 6, 7, 8, 9, 10, 11, 12, 13, 14, 15, 16

## Header 16X2
designator P?, comment Device Name  (value not drawn)
Header, 16-Pin, Dual row; Manufacture: Device Name
footprint HDR2X16 (Connector; Header; 16x2 Position)
signal-integrity model Connector
footprint HDR-1.27-2X16 (Connector; Header; 16x2 Position)
pins: 1, 2, 3, 4, 5, 6, 7, 8, 9, 10, 11, 12, 13, 14, 15, 16, 17, 18, 19, 20, 21, 22, 23, 24, 25, 26, 27, 28, 29, 30, 31, 32

## Header 16X2A
designator P?, comment Sch Name: Header 16X2A  (hidden comment: Device Name)
Header, 16-Pin, Dual row; Manufacture: Device Name
footprint HDR2X16_CEN (Connector; Header; 16x2 Position)
signal-integrity model Connector
pins: 1, 2, 3, 4, 5, 6, 7, 8, 9, 10, 11, 12, 13, 14, 15, 16, 17, 18, 19, 20, 21, 22, 23, 24, 25, 26, 27, 28, 29, 30, 31, 32

## Header 16X2H
designator P?, comment Sch Name: Header 16X2H  (hidden comment: Device Name)
Header, 16-Pin, Dual row, Right Angle; Manufacture: Device Name
footprint HDR2X16H (Connector; Header; 16x2 Position; Right Angle)
signal-integrity model Connector
footprint HDR2X16F-SMD (单排16针排针)
pins: 1, 2, 3, 4, 5, 6, 7, 8, 9, 10, 11, 12, 13, 14, 15, 16, 17, 18, 19, 20, 21, 22, 23, 24, 25, 26, 27, 28, 29, 30, 31, 32

## Header 17
designator P?, comment Sch Name: Header 17  (hidden comment: Device Name)
Header, 17-Pin; Manufacture: Device Name
footprint HDR1X17 (Connector; Header; 17 Position)
signal-integrity model Connector
footprint HDR-1.27-1X17 (Connector; Header; 17 Position)
pins: 1, 2, 3, 4, 5, 6, 7, 8, 9, 10, 11, 12, 13, 14, 15, 16, 17

## Header 17H
designator P?, comment Sch Name: Header 17H  (hidden comment: Device Name)
Header, 17-Pin, Right Angle; Manufacture: Device Name
footprint HDR1X17H (Connector; Header; 17 Position; Right Angle)
signal-integrity model Connector
pins: 1, 2, 3, 4, 5, 6, 7, 8, 9, 10, 11, 12, 13, 14, 15, 16, 17

## Header 17X2
designator P?, comment Sch Name: Header 17X2  (hidden comment: Device Name)
Header, 17-Pin, Dual row; Manufacture: Device Name
footprint HDR2X17 (Connector; Header; 17x2 Position)
signal-integrity model Connector
footprint HDR-1.27-2X17 (Connector; Header; 17x2 Position)
pins: 1, 2, 3, 4, 5, 6, 7, 8, 9, 10, 11, 12, 13, 14, 15, 16, 17, 18, 19, 20, 21, 22, 23, 24, 25, 26, 27, 28, 29, 30, 31, 32, 33, 34

## Header 17X2A
designator P?, comment Sch Name: Header 17X2A  (hidden comment: Device Name)
Header, 17-Pin, Dual row; Manufacture: Device Name
footprint HDR2X17_CEN (Connector; Header; 17x2 Position)
signal-integrity model Connector
pins: 1, 2, 3, 4, 5, 6, 7, 8, 9, 10, 11, 12, 13, 14, 15, 16, 17, 18, 19, 20, 21, 22, 23, 24, 25, 26, 27, 28, 29, 30, 31, 32, 33, 34

## Header 17X2H
designator P?, comment Sch Name: Header 17X2H  (hidden comment: Device Name)
Header, 17-Pin, Dual row, Right Angle; Manufacture: Device Name
footprint HDR2X17H (Connector; Header; 17x2 Position; Right Angle)
signal-integrity model Connector
pins: 1, 2, 3, 4, 5, 6, 7, 8, 9, 10, 11, 12, 13, 14, 15, 16, 17, 18, 19, 20, 21, 22, 23, 24, 25, 26, 27, 28, 29, 30, 31, 32, 33, 34

## Header 18
designator P?, comment Sch Name: Header 18  (hidden comment: Device Name)
Header, 18-Pin; Manufacture: Device Name
footprint HDR1X18 (Connector; Header; 18 Position)
signal-integrity model Connector
footprint HDR-1.27-1X18 (Connector; Header; 18 Position)
pins: 1, 2, 3, 4, 5, 6, 7, 8, 9, 10, 11, 12, 13, 14, 15, 16, 17, 18

## Header 18H
designator P?, comment Sch Name: Header 18H  (hidden comment: Device Name)
Header, 18-Pin, Right Angle; Manufacture: Device Name
footprint HDR1X18H (Connector; Header; 18 Position; Right Angle)
signal-integrity model Connector
pins: 1, 2, 3, 4, 5, 6, 7, 8, 9, 10, 11, 12, 13, 14, 15, 16, 17, 18

## Header 18X2
designator P?, comment Sch Name: Header 18X2  (hidden comment: Device Name)
Header, 18-Pin, Dual row; Manufacture: Device Name
footprint HDR2X18 (Connector; Header; 18x2 Position)
signal-integrity model Connector
footprint HDR-1.27-2X18 (Connector; Header; 18x2 Position)
pins: 1, 2, 3, 4, 5, 6, 7, 8, 9, 10, 11, 12, 13, 14, 15, 16, 17, 18, 19, 20, 21, 22, 23, 24, 25, 26, 27, 28, 29, 30, 31, 32, 33, 34, 35, 36

## Header 18X2H
designator P?, comment Sch Name: Header 18X2H  (hidden comment: Device Name)
Header, 18-Pin, Dual row, Right Angle; Manufacture: Device Name
footprint HDR2X18H (Connector; Header; 18x2 Position; Right Angle)
signal-integrity model Connector
pins: 1, 2, 3, 4, 5, 6, 7, 8, 9, 10, 11, 12, 13, 14, 15, 16, 17, 18, 19, 20, 21, 22, 23, 24, 25, 26, 27, 28, 29, 30, 31, 32, 33, 34, 35, 36

## Header 19
designator P?, comment Sch Name: Header 19  (hidden comment: Device Name)
Header, 19-Pin; Manufacture: Device Name
footprint HDR1X19 (Connector; Header; 19 Position)
signal-integrity model Connector
footprint HDR-1.27-1X19 (Connector; Header; 19 Position)
pins: 1, 2, 3, 4, 5, 6, 7, 8, 9, 10, 11, 12, 13, 14, 15, 16, 17, 18, 19

## Header 19H
designator P?, comment Sch Name: Header 19H  (hidden comment: Device Name)
Header, 19-Pin, Right Angle; Manufacture: Device Name
footprint HDR1X19H (Connector; Header; 19 Position; Right Angle)
signal-integrity model Connector
pins: 1, 2, 3, 4, 5, 6, 7, 8, 9, 10, 11, 12, 13, 14, 15, 16, 17, 18, 19

## Header 19X2
designator P?, comment Sch Name: Header 19X2  (hidden comment: Device Name)
Header, 19-Pin, Dual row; Manufacture: Device Name
footprint HDR2X19 (Connector; Header; 19x2 Position)
signal-integrity model Connector
footprint HDR-1.27-2X19 (Connector; Header; 19x2 Position)
pins: 1, 2, 3, 4, 5, 6, 7, 8, 9, 10, 11, 12, 13, 14, 15, 16, 17, 18, 19, 20, 21, 22, 23, 24, 25, 26, 27, 28, 29, 30, 31, 32, 33, 34, 35, 36, 37, 38

## Header 19X2H
designator P?, comment Sch Name: Header 19X2H  (hidden comment: Device Name)
Header, 19-Pin, Dual row, Right Angle; Manufacture: Device Name
footprint HDR2X19H (Connector; Header; 19x2 Position; Right Angle)
signal-integrity model Connector
pins: 1, 2, 3, 4, 5, 6, 7, 8, 9, 10, 11, 12, 13, 14, 15, 16, 17, 18, 19, 20, 21, 22, 23, 24, 25, 26, 27, 28, 29, 30, 31, 32, 33, 34, 35, 36, 37, 38

## Header 20
designator P?, comment Sch Name: Header 20  (hidden comment: Device Name)
Header, 20-Pin; Manufacture: Device Name
footprint HDR1X20 (Connector; Header; 20 Position)
signal-integrity model Connector
footprint HDR-1.27-1X20 (Connector; Header; 20 Position)
pins: 1, 2, 3, 4, 5, 6, 7, 8, 9, 10, 11, 12, 13, 14, 15, 16, 17, 18, 19, 20

## Header 20H
designator P?
Header, 20-Pin, Right Angle; Manufacture: Device Name; Sch Name: Header 20H
footprint HDR1X20H (Connector; Header; 20 Position; Right Angle)
signal-integrity model Connector
pins: 1, 2, 3, 4, 5, 6, 7, 8, 9, 10, 11, 12, 13, 14, 15, 16, 17, 18, 19, 20

## Header 20X2
designator P?, comment Sch Name: Header 20X2  (hidden comment: Device Name)
Header, 20-Pin, Dual row; Manufacture: Device Name
footprint HDR2X20 (Connector; Header; 20x2 Position)
signal-integrity model Connector
footprint HDR-1.27-2X20 (Connector; Header; 20x2 Position)
pins: 1, 2, 3, 4, 5, 6, 7, 8, 9, 10, 11, 12, 13, 14, 15, 16, 17, 18, 19, 20, 21, 22, 23, 24, 25, 26, 27, 28, 29, 30, 31, 32, 33, 34, 35, 36, 37, 38, 39, 40

## Header 20X2H
designator P?, comment Sch Name: Header 20X2H  (hidden comment: Device Name)
Header, 20-Pin, Dual row, Right Angle; Manufacture: Device Name
footprint HDR2X20H (Connector; Header; 20x2 Position; Right Angle)
signal-integrity model Connector
pins: 1, 2, 3, 4, 5, 6, 7, 8, 9, 10, 11, 12, 13, 14, 15, 16, 17, 18, 19, 20, 21, 22, 23, 24, 25, 26, 27, 28, 29, 30, 31, 32, 33, 34, 35, 36, 37, 38, 39, 40

## Header 22
designator P?, comment Sch Name: Header 22  (hidden comment: Device Name)
Header, 22-Pin; Manufacture: Device Name
footprint HDR1X22 (Connector; Header; 22 Position)
signal-integrity model Connector
pins: 1, 2, 3, 4, 5, 6, 7, 8, 9, 10, 11, 12, 13, 14, 15, 16, 17, 18, 19, 20, 21, 22

## Header 22H
designator P?, comment Sch Name: Header 22H  (hidden comment: Device Name)
Header, 22-Pin, Right Angle; Manufacture: Device Name
footprint HDR1X22H (Connector; Header; 22 Position; Right Angle)
signal-integrity model Connector
pins: 1, 2, 3, 4, 5, 6, 7, 8, 9, 10, 11, 12, 13, 14, 15, 16, 17, 18, 19, 20, 21, 22

## Header 22X2
designator P?, comment Sch Name: Header 22X2  (hidden comment: Device Name)
Header, 22-Pin, Dual row; Manufacture: Device Name
footprint HDR2X22 (Connector; Header; 22x2 Position)
signal-integrity model Connector
pins: 1, 2, 3, 4, 5, 6, 7, 8, 9, 10, 11, 12, 13, 14, 15, 16, 17, 18, 19, 20, 21, 22, 23, 24, 25, 26, 27, 28, 29, 30, 31, 32, 33, 34, 35, 36, 37, 38, 39, 40, 41, 42, 43, 44

## Header 22X2H
designator P?, comment Sch Name: Header 22X2H  (hidden comment: Device Name)
Header, 22-Pin, Dual row, Right Angle; Manufacture: Device Name
footprint HDR2X22H (Connector; Header; 22x2 Position; Right Angle)
signal-integrity model Connector
pins: 1, 2, 3, 4, 5, 6, 7, 8, 9, 10, 11, 12, 13, 14, 15, 16, 17, 18, 19, 20, 21, 22, 23, 24, 25, 26, 27, 28, 29, 30, 31, 32, 33, 34, 35, 36, 37, 38, 39, 40, 41, 42, 43, 44

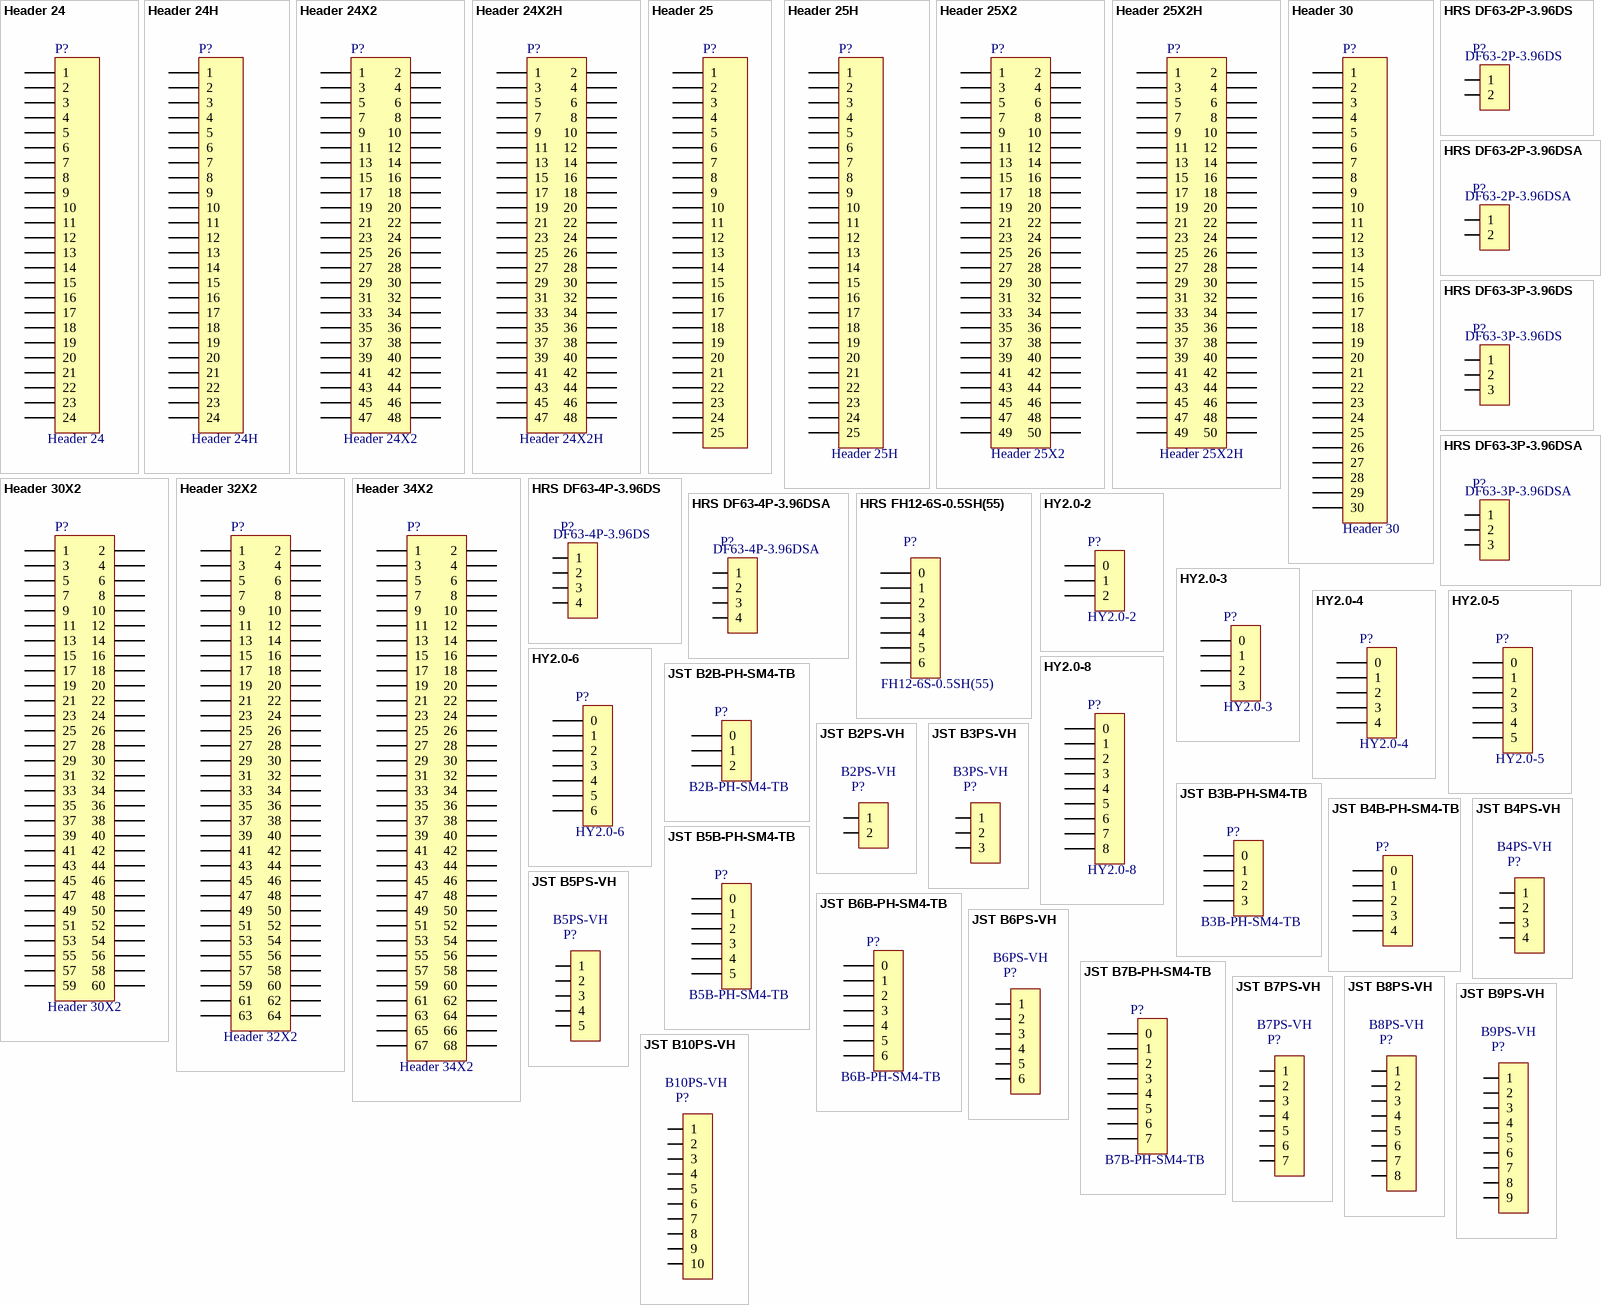
[diagram p3: symbols Header 24 to JST B10PS-VH]

## Header 24
designator P?, comment Sch Name: Header 24  (hidden comment: Device Name)
Header, 24-Pin; Manufacture: Device Name
footprint HDR1X24 (Connector; Header; 24 Position)
signal-integrity model Connector
pins: 1, 2, 3, 4, 5, 6, 7, 8, 9, 10, 11, 12, 13, 14, 15, 16, 17, 18, 19, 20, 21, 22, 23, 24

## Header 24H
designator P?, comment Sch Name: Header 24H  (hidden comment: Device Name)
Header, 24-Pin, Right Angle; Manufacture: Device Name
footprint HDR1X24H (Connector; Header; 24 Position; Right Angle)
signal-integrity model Connector
pins: 1, 2, 3, 4, 5, 6, 7, 8, 9, 10, 11, 12, 13, 14, 15, 16, 17, 18, 19, 20, 21, 22, 23, 24

## Header 24X2
designator P?, comment Sch Name: Header 24X2  (hidden comment: Device Name)
Header, 24-Pin, Dual row; Manufacture: Device Name
footprint HDR2X24 (Connector; Header; 24x2 Position)
signal-integrity model Connector
pins: 1, 2, 3, 4, 5, 6, 7, 8, 9, 10, 11, 12, 13, 14, 15, 16, 17, 18, 19, 20, 21, 22, 23, 24, 25, 26, 27, 28, 29, 30, 31, 32, 33, 34, 35, 36, 37, 38, 39, 40, 41, 42, 43, 44, 45, 46, 47, 48

## Header 24X2H
designator P?, comment Sch Name: Header 24X2H  (hidden comment: Device Name)
Header, 24-Pin, Dual row, Right Angle; Manufacture: Device Name
footprint HDR2X24H (Connector; Header; 24x2 Position; Right Angle)
signal-integrity model Connector
pins: 1, 2, 3, 4, 5, 6, 7, 8, 9, 10, 11, 12, 13, 14, 15, 16, 17, 18, 19, 20, 21, 22, 23, 24, 25, 26, 27, 28, 29, 30, 31, 32, 33, 34, 35, 36, 37, 38, 39, 40, 41, 42, 43, 44, 45, 46, 47, 48

## Header 25
designator P?, comment Device Name  (value not drawn)
Header, 25-Pin; Manufacture: Device Name
footprint HDR1X25 (Connector; Header; 25 Position)
signal-integrity model Connector
pins: 1, 2, 3, 4, 5, 6, 7, 8, 9, 10, 11, 12, 13, 14, 15, 16, 17, 18, 19, 20, 21, 22, 23, 24, 25

## Header 25H
designator P?, comment Sch Name: Header 25H  (hidden comment: Device Name)
Header, 25-Pin, Right Angle; Manufacture: Device Name
footprint HDR1X25H (Connector; Header; 25 Position; Right Angle)
signal-integrity model Connector
pins: 1, 2, 3, 4, 5, 6, 7, 8, 9, 10, 11, 12, 13, 14, 15, 16, 17, 18, 19, 20, 21, 22, 23, 24, 25

## Header 25X2
designator P?, comment Sch Name: Header 25X2  (hidden comment: Device Name)
Header, 25-Pin, Dual row; Manufacture: Device Name
footprint HDR2X25 (Connector; Header; 25x2 Position)
signal-integrity model Connector
pins: 1, 2, 3, 4, 5, 6, 7, 8, 9, 10, 11, 12, 13, 14, 15, 16, 17, 18, 19, 20, 21, 22, 23, 24, 25, 26, 27, 28, 29, 30, 31, 32, 33, 34, 35, 36, 37, 38, 39, 40, 41, 42, 43, 44, 45, 46, 47, 48, 49, 50

## Header 25X2H
designator P?, comment Sch Name: Header 25X2H  (hidden comment: Device Name)
Header, 25-Pin, Dual row, Right Angle; Manufacture: Device Name
footprint HDR2X25H (Connector; Header; 25x2 Position; Right Angle)
signal-integrity model Connector
pins: 1, 2, 3, 4, 5, 6, 7, 8, 9, 10, 11, 12, 13, 14, 15, 16, 17, 18, 19, 20, 21, 22, 23, 24, 25, 26, 27, 28, 29, 30, 31, 32, 33, 34, 35, 36, 37, 38, 39, 40, 41, 42, 43, 44, 45, 46, 47, 48, 49, 50

## Header 30
designator P?, comment Sch Name: Header 30  (hidden comment: Device Name)
Header, 30-Pin; Manufacture: Device Name
footprint HDR1X30 (Connector; Header; 30 Position)
signal-integrity model Connector
pins: 1, 2, 3, 4, 5, 6, 7, 8, 9, 10, 11, 12, 13, 14, 15, 16, 17, 18, 19, 20, 21, 22, 23, 24, 25, 26, 27, 28, 29, 30

## Header 30X2
designator P?, comment Sch Name: Header 30X2  (hidden comment: Device Name)
Header, 30-Pin, Dual row; Manufacture: Device Name
footprint HDR2X30F (Connector; Header; 30x2 Position)
signal-integrity model Connector
pins: 1, 2, 3, 4, 5, 6, 7, 8, 9, 10, 11, 12, 13, 14, 15, 16, 17, 18, 19, 20, 21, 22, 23, 24, 25, 26, 27, 28, 29, 30, 31, 32, 33, 34, 35, 36, 37, 38, 39, 40, 41, 42, 43, 44, 45, 46, 47, 48, 49, 50, 51, 52, 53, 54, 55, 56, 57, 58, 59, 60

## Header 32X2
designator P?, comment Sch Name: Header 32X2  (hidden comment: Device Name)
Header, 32-Pin, Dual row; Manufacture: Device Name
footprint HDR2X32F (Connector; Header; 30x2 Position)
signal-integrity model Connector
pins: 1, 2, 3, 4, 5, 6, 7, 8, 9, 10, 11, 12, 13, 14, 15, 16, 17, 18, 19, 20, 21, 22, 23, 24, 25, 26, 27, 28, 29, 30, 31, 32, 33, 34, 35, 36, 37, 38, 39, 40, 41, 42, 43, 44, 45, 46, 47, 48, 49, 50, 51, 52, 53, 54, 55, 56, 57, 58, 59, 60, 61, 62, 63, 64

## Header 34X2
designator P?, comment Sch Name: Header 34X2  (hidden comment: Device Name)
Header, 34-Pin, Dual row; Manufacture: Device Name
footprint HDR2X34F (Connector; Header; 30x2 Position)
signal-integrity model Connector
pins: 1, 2, 3, 4, 5, 6, 7, 8, 9, 10, 11, 12, 13, 14, 15, 16, 17, 18, 19, 20, 21, 22, 23, 24, 25, 26, 27, 28, 29, 30, 31, 32, 33, 34, 35, 36, 37, 38, 39, 40, 41, 42, 43, 44, 45, 46, 47, 48, 49, 50, 51, 52, 53, 54, 55, 56, 57, 58, 59, 60, 61, 62, 63, 64, 65, 66, 67, 68

## HRS DF63-2P-3.96DS
designator P?, comment DF63-2P-3.96DS
Manufacture: DF63-2P-3.96DS; Sch Name: DF63-2P-3.96DS
footprint HRS DF63-2P-3.96DS
pins: 1, 2

## HRS DF63-2P-3.96DSA
designator P?, comment DF63-2P-3.96DSA
Manufacture: DF63-2P-3.96DSA; Sch Name: DF63-2P-3.96DSA
footprint HRS DF63-2P-3.96DSA
pins: 1, 2

## HRS DF63-3P-3.96DS
designator P?, comment DF63-3P-3.96DS
Manufacture: DF63-3P-3.96DS; Sch Name: DF63-3P-3.96DS
footprint HRS DF63-3P-3.96DS
pins: 1, 2, 3

## HRS DF63-3P-3.96DSA
designator P?, comment DF63-3P-3.96DSA
Manufacture: DF63-3P-3.96DSA; Sch Name: DF63-3P-3.96DSA
footprint HRS DF63-3P-3.96DSA
pins: 1, 2, 3

## HRS DF63-4P-3.96DS
designator P?, comment DF63-4P-3.96DS
Manufacture: DF63-4P-3.96DS; Sch Name: DF63-4P-3.96DS
footprint HRS DF63-4P-3.96DS
pins: 1, 2, 3, 4

## HRS DF63-4P-3.96DSA
designator P?, comment DF63-4P-3.96DSA
Manufacture: DF63-4P-3.96DSA; Sch Name: DF63-4P-3.96DSA
footprint HRS DF63-4P-3.96DSA
pins: 1, 2, 3, 4

## HRS FH12-6S-0.5SH(55)
designator P?, comment FH12-6S-0.5SH(55)
52559-0652; Manufacture: FH12-6S-0.5SH(55); Sch Name: FH12-6S-0.5SH(55)
footprint HRS FH12-6S-0.5SH(55)
pins: 0 (power), 1 (power), 2 (power), 3 (power), 4 (power), 5 (power), 6 (power)

## HY2.0-2
designator P?
2P-2.0卧贴; Manufacture: HY2.0-2; Sch Name: HY2.0-2
footprint HY2.0_2
pins: 0 (power), 1 (power), 2 (power)

## HY2.0-3
designator P?
3P-2.0卧贴; Manufacture: HY2.0-3; Sch Name: HY2.0-3
footprint HY2.0_3
pins: 0 (power), 1 (power), 2 (power), 3 (power)

## HY2.0-4
designator P?
4P-2.0卧贴; Manufacture: HY2.0-4; Sch Name: HY2.0-4
footprint HY2.0_4
pins: 0 (power), 1 (power), 2 (power), 3 (power), 4 (power)

## HY2.0-5
designator P?
5P-2.0卧贴; Manufacture: HY2.0-5; Sch Name: HY2.0-5
footprint HY2.0_5
pins: 0 (power), 1 (power), 2 (power), 3 (power), 4 (power), 5 (power)

## HY2.0-6
designator P?
6P-2.0卧贴; Manufacture: HY2.0-6; Sch Name: HY2.0-6
footprint HY2.0_6
pins: 0 (power), 1 (power), 2 (power), 3 (power), 4 (power), 5 (power), 6 (power)

## HY2.0-8
designator P?
8P-2.0卧贴; Manufacture: HY2.0-8; Sch Name: HY2.0-8
footprint HY2.0_8
pins: 0 (power), 1 (power), 2 (power), 3 (power), 4 (power), 5 (power), 6 (power), 7 (power), 8 (power)

## JST B2B-PH-SM4-TB
designator P?, comment B2B-PH-SM4-TB
Manufacture: B2B-PH-SM4-TB; Sch Name: B2B-PH-SM4-TB
footprint JST B2B-PH-SM4-TB
pins: 0 (power), 1 (power), 2 (power)

## JST B2PS-VH
designator P?, comment B2PS-VH
Manufacture: B2PS-VH; Sch Name: B2PS-VH
footprint JST B2PS-VH
footprint JST B2P-VH
footprint JST B2P-VH-FB-B
pins: 1, 2

## JST B3B-PH-SM4-TB
designator P?, comment B3B-PH-SM4-TB
Manufacture: B3B-PH-SM4-TB; Sch Name: B3B-PH-SM4-TB
footprint JST B3B-PH-SM4-TB
pins: 0 (power), 1 (power), 2 (power), 3 (power)

## JST B3PS-VH
designator P?, comment B3PS-VH
Manufacture: B3PS-VH; Sch Name: B3PS-VH
footprint JST B3PS-VH
pins: 1, 2, 3

## JST B4B-PH-SM4-TB
designator P?, comment B4B-PH-SM4-TB  (value not drawn)
Manufacture: B4B-PH-SM4-TB; Sch Name: B4B-PH-SM4-TB
footprint JST B4B-PH-SM4-TB
pins: 0 (power), 1 (power), 2 (power), 3 (power), 4 (power)

## JST B4PS-VH
designator P?, comment B4PS-VH
Manufacture: B4PS-VH; Sch Name: B4PS-VH
footprint JST B4PS-VH
pins: 1, 2, 3, 4

## JST B5B-PH-SM4-TB
designator P?, comment B5B-PH-SM4-TB
Manufacture: B5B-PH-SM4-TB; Sch Name: B5B-PH-SM4-TB
footprint JST B5B-PH-SM4-TB
pins: 0 (power), 1 (power), 2 (power), 3 (power), 4 (power), 5 (power)

## JST B5PS-VH
designator P?, comment B5PS-VH
Manufacture: B5PS-VH; Sch Name: B5PS-VH
footprint JST B5PS-VH
pins: 1, 2, 3, 4, 5

## JST B6B-PH-SM4-TB
designator P?, comment B6B-PH-SM4-TB
Manufacture: B6B-PH-SM4-TB; Sch Name: B6B-PH-SM4-TB
footprint JST B6B-PH-SM4-TB
pins: 0 (power), 1 (power), 2 (power), 3 (power), 4 (power), 5 (power), 6 (power)

## JST B6PS-VH
designator P?, comment B6PS-VH
Manufacture: B6PS-VH; Sch Name: B6PS-VH
footprint JST B6PS-VH
pins: 1, 2, 3, 4, 5, 6

## JST B7B-PH-SM4-TB
designator P?, comment B7B-PH-SM4-TB
Manufacture: B7B-PH-SM4-TB; Sch Name: B7B-PH-SM4-TB
footprint JST B7B-PH-SM4-TB
pins: 0 (power), 1 (power), 2 (power), 3 (power), 4 (power), 5 (power), 6 (power), 7 (power)

## JST B7PS-VH
designator P?, comment B7PS-VH
Manufacture: B7PS-VH; Sch Name: B7PS-VH
footprint JST B7PS-VH
pins: 1, 2, 3, 4, 5, 6, 7

## JST B8PS-VH
designator P?, comment B8PS-VH
Manufacture: B8PS-VH; Sch Name: B8PS-VH
footprint JST B8PS-VH
pins: 1, 2, 3, 4, 5, 6, 7, 8

## JST B9PS-VH
designator P?, comment B9PS-VH
Manufacture: B9PS-VH; Sch Name: B9PS-VH
footprint JST B9PS-VH
pins: 1, 2, 3, 4, 5, 6, 7, 8, 9

## JST B10PS-VH
designator P?, comment B10PS-VH
Manufacture: B10PS-VH; Sch Name: B10PS-VH
footprint JST B10PS-VH
pins: 1, 2, 3, 4, 5, 6, 7, 8, 9, 10

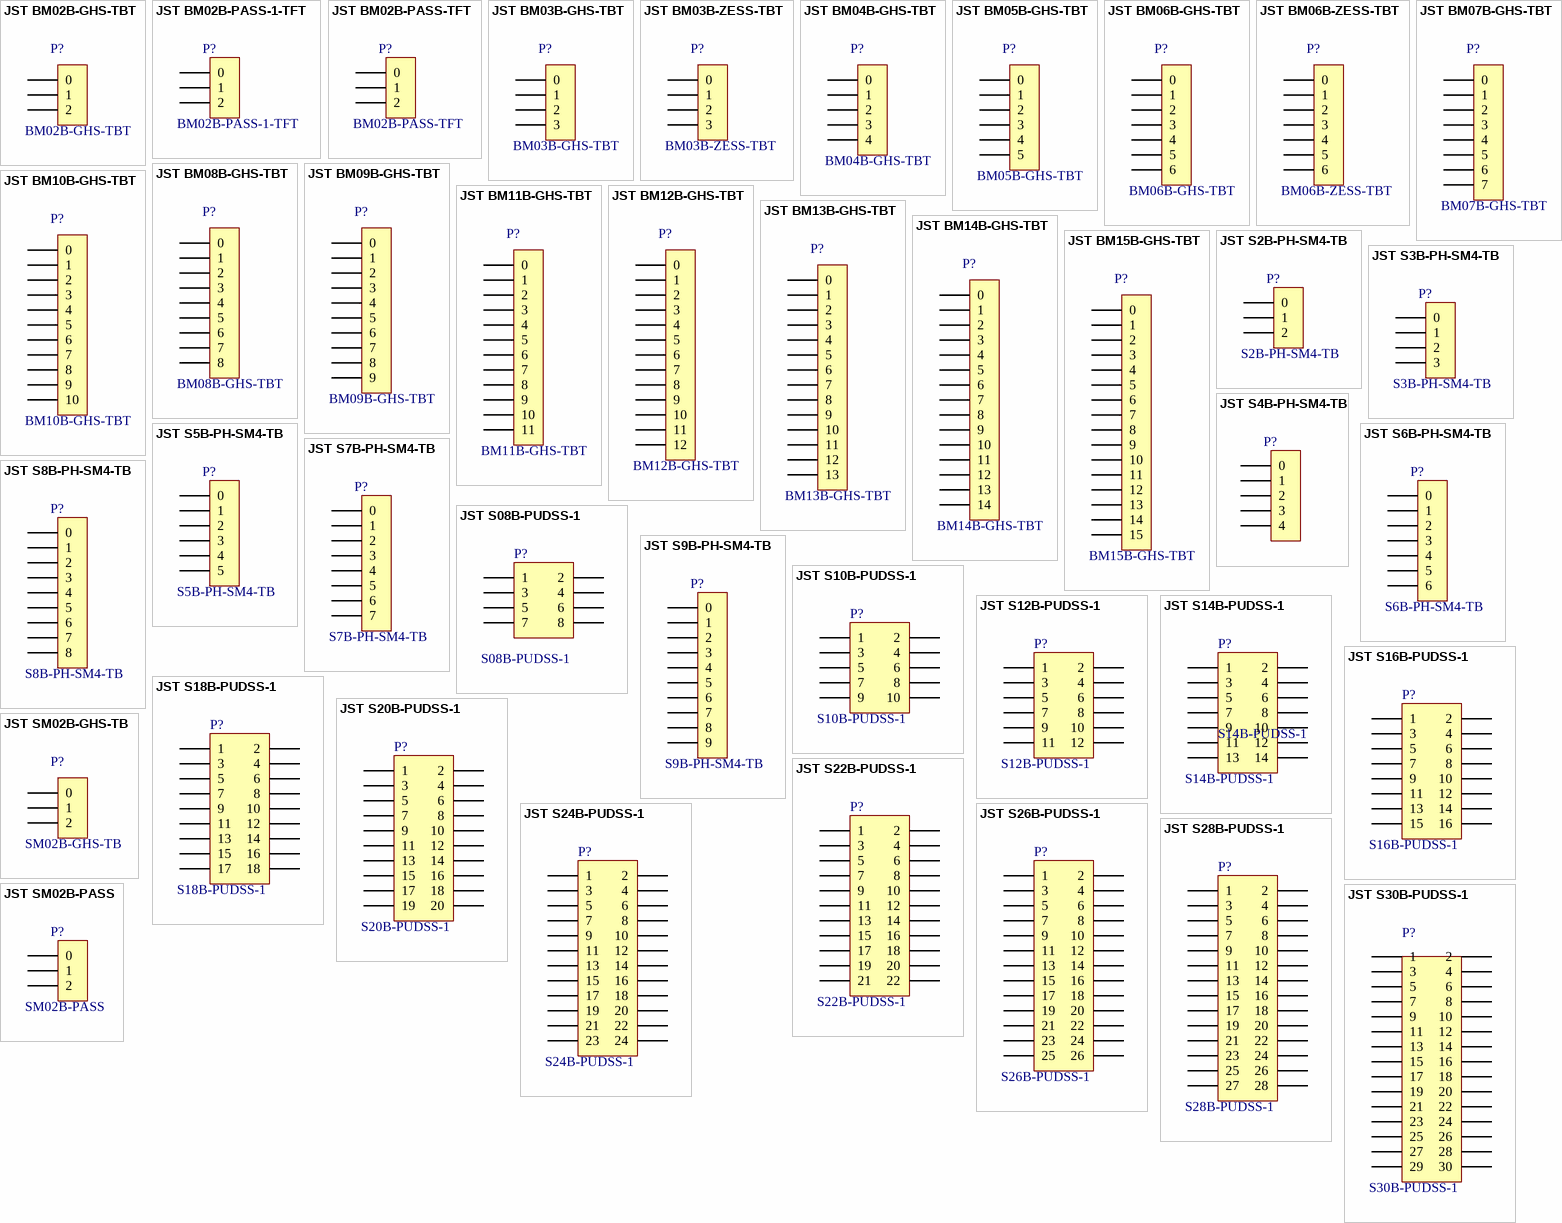
[diagram p4: symbols JST BM02B-GHS-TBT to JST SM02B-PASS]

## JST BM02B-GHS-TBT
designator P?, comment BM02B-GHS-TBT
Manufacture: BM02B-GHS-TBT; Sch Name: BM02B-GHS-TBT
footprint JST BM02B-GHS-TBT
pins: 0 (power), 1 (power), 2 (power)

## JST BM02B-PASS-1-TFT
designator P?, comment BM02B-PASS-1-TFT
Manufacture: BM02B-PASS-1-TFT; Sch Name: BM02B-PASS-1-TFT
footprint JST BM02B-PASS-1-TFT
pins: 0 (power), 1 (power), 2 (power)

## JST BM02B-PASS-TFT
designator P?, comment BM02B-PASS-TFT
Manufacture: BM02B-PASS-TFT; Sch Name: BM02B-PASS-TFT
footprint JST BM02B-PASS-TFT
pins: 0 (power), 1 (power), 2 (power)

## JST BM03B-GHS-TBT
designator P?, comment BM03B-GHS-TBT
Manufacture: BM03B-GHS-TBT; Sch Name: BM03B-GHS-TBT
footprint JST BM03B-GHS-TBT
pins: 0 (power), 1 (power), 2 (power), 3 (power)

## JST BM03B-ZESS-TBT
designator P?, comment BM03B-ZESS-TBT
Manufacture: BM03B-ZESS-TBT; Sch Name: BM03B-ZESS-TBT
footprint JST BM03B-ZESS-TBT
pins: 0 (power), 1 (power), 2 (power), 3 (power)

## JST BM04B-GHS-TBT
designator P?, comment BM04B-GHS-TBT
Manufacture: BM04B-GHS-TBT; Sch Name: BM04B-GHS-TBT
footprint JST BM04B-GHS-TBT
pins: 0 (power), 1 (power), 2 (power), 3 (power), 4 (power)

## JST BM05B-GHS-TBT
designator P?, comment BM05B-GHS-TBT
Manufacture: BM05B-GHS-TBT; Sch Name: BM05B-GHS-TBT
footprint JST BM05B-GHS-TBT
pins: 0 (power), 1 (power), 2 (power), 3 (power), 4 (power), 5 (power)

## JST BM06B-GHS-TBT
designator P?, comment BM06B-GHS-TBT
Manufacture: BM06B-GHS-TBT; Sch Name: BM06B-GHS-TBT
footprint JST BM06B-GHS-TBT
pins: 0 (power), 1 (power), 2 (power), 3 (power), 4 (power), 5 (power), 6 (power)

## JST BM06B-ZESS-TBT
designator P?, comment BM06B-ZESS-TBT
Manufacture: BM06B-ZESS-TBT; Sch Name: BM06B-ZESS-TBT
footprint JST BM06B-ZESS-TBT
pins: 0 (power), 1 (power), 2 (power), 3 (power), 4 (power), 5 (power), 6 (power)

## JST BM07B-GHS-TBT
designator P?, comment BM07B-GHS-TBT
Manufacture: BM07B-GHS-TBT; Sch Name: BM07B-GHS-TBT
footprint JST BM07B-GHS-TBT
pins: 0 (power), 1 (power), 2 (power), 3 (power), 4 (power), 5 (power), 6 (power), 7 (power)

## JST BM08B-GHS-TBT
designator P?, comment BM08B-GHS-TBT
Manufacture: BM08B-GHS-TBT; Sch Name: BM08B-GHS-TBT
footprint JST BM08B-GHS-TBT
pins: 0 (power), 1 (power), 2 (power), 3 (power), 4 (power), 5 (power), 6 (power), 7 (power), 8 (power)

## JST BM09B-GHS-TBT
designator P?, comment BM09B-GHS-TBT
Manufacture: BM09B-GHS-TBT; Sch Name: BM09B-GHS-TBT
footprint JST BM09B-GHS-TBT
pins: 0 (power), 1 (power), 2 (power), 3 (power), 4 (power), 5 (power), 6 (power), 7 (power), 8 (power), 9 (power)

## JST BM10B-GHS-TBT
designator P?, comment BM10B-GHS-TBT
Manufacture: BM10B-GHS-TBT; Sch Name: BM10B-GHS-TBT
footprint JST BM10B-GHS-TBT
pins: 0 (power), 1 (power), 2 (power), 3 (power), 4 (power), 5 (power), 6 (power), 7 (power), 8 (power), 9 (power), 10 (power)

## JST BM11B-GHS-TBT
designator P?, comment BM11B-GHS-TBT
Manufacture: BM11B-GHS-TBT; Sch Name: BM11B-GHS-TBT
footprint JST BM11B-GHS-TBT
pins: 0 (power), 1 (power), 2 (power), 3 (power), 4 (power), 5 (power), 6 (power), 7 (power), 8 (power), 9 (power), 10 (power), 11 (power)

## JST BM12B-GHS-TBT
designator P?, comment BM12B-GHS-TBT
Manufacture: BM12B-GHS-TBT; Sch Name: BM12B-GHS-TBT
footprint JST BM12B-GHS-TBT
pins: 0 (power), 1 (power), 2 (power), 3 (power), 4 (power), 5 (power), 6 (power), 7 (power), 8 (power), 9 (power), 10 (power), 11 (power), 12 (power)

## JST BM13B-GHS-TBT
designator P?, comment BM13B-GHS-TBT
Manufacture: BM13B-GHS-TBT; Sch Name: BM13B-GHS-TBT
footprint JST BM13B-GHS-TBT
pins: 0 (power), 1 (power), 2 (power), 3 (power), 4 (power), 5 (power), 6 (power), 7 (power), 8 (power), 9 (power), 10 (power), 11 (power), 12 (power), 13 (power)